# Altium integrated library Analog Devices Data Converters Digital-to-Analog Converters.IntLib: 2231 symbols (part 26 of 181)
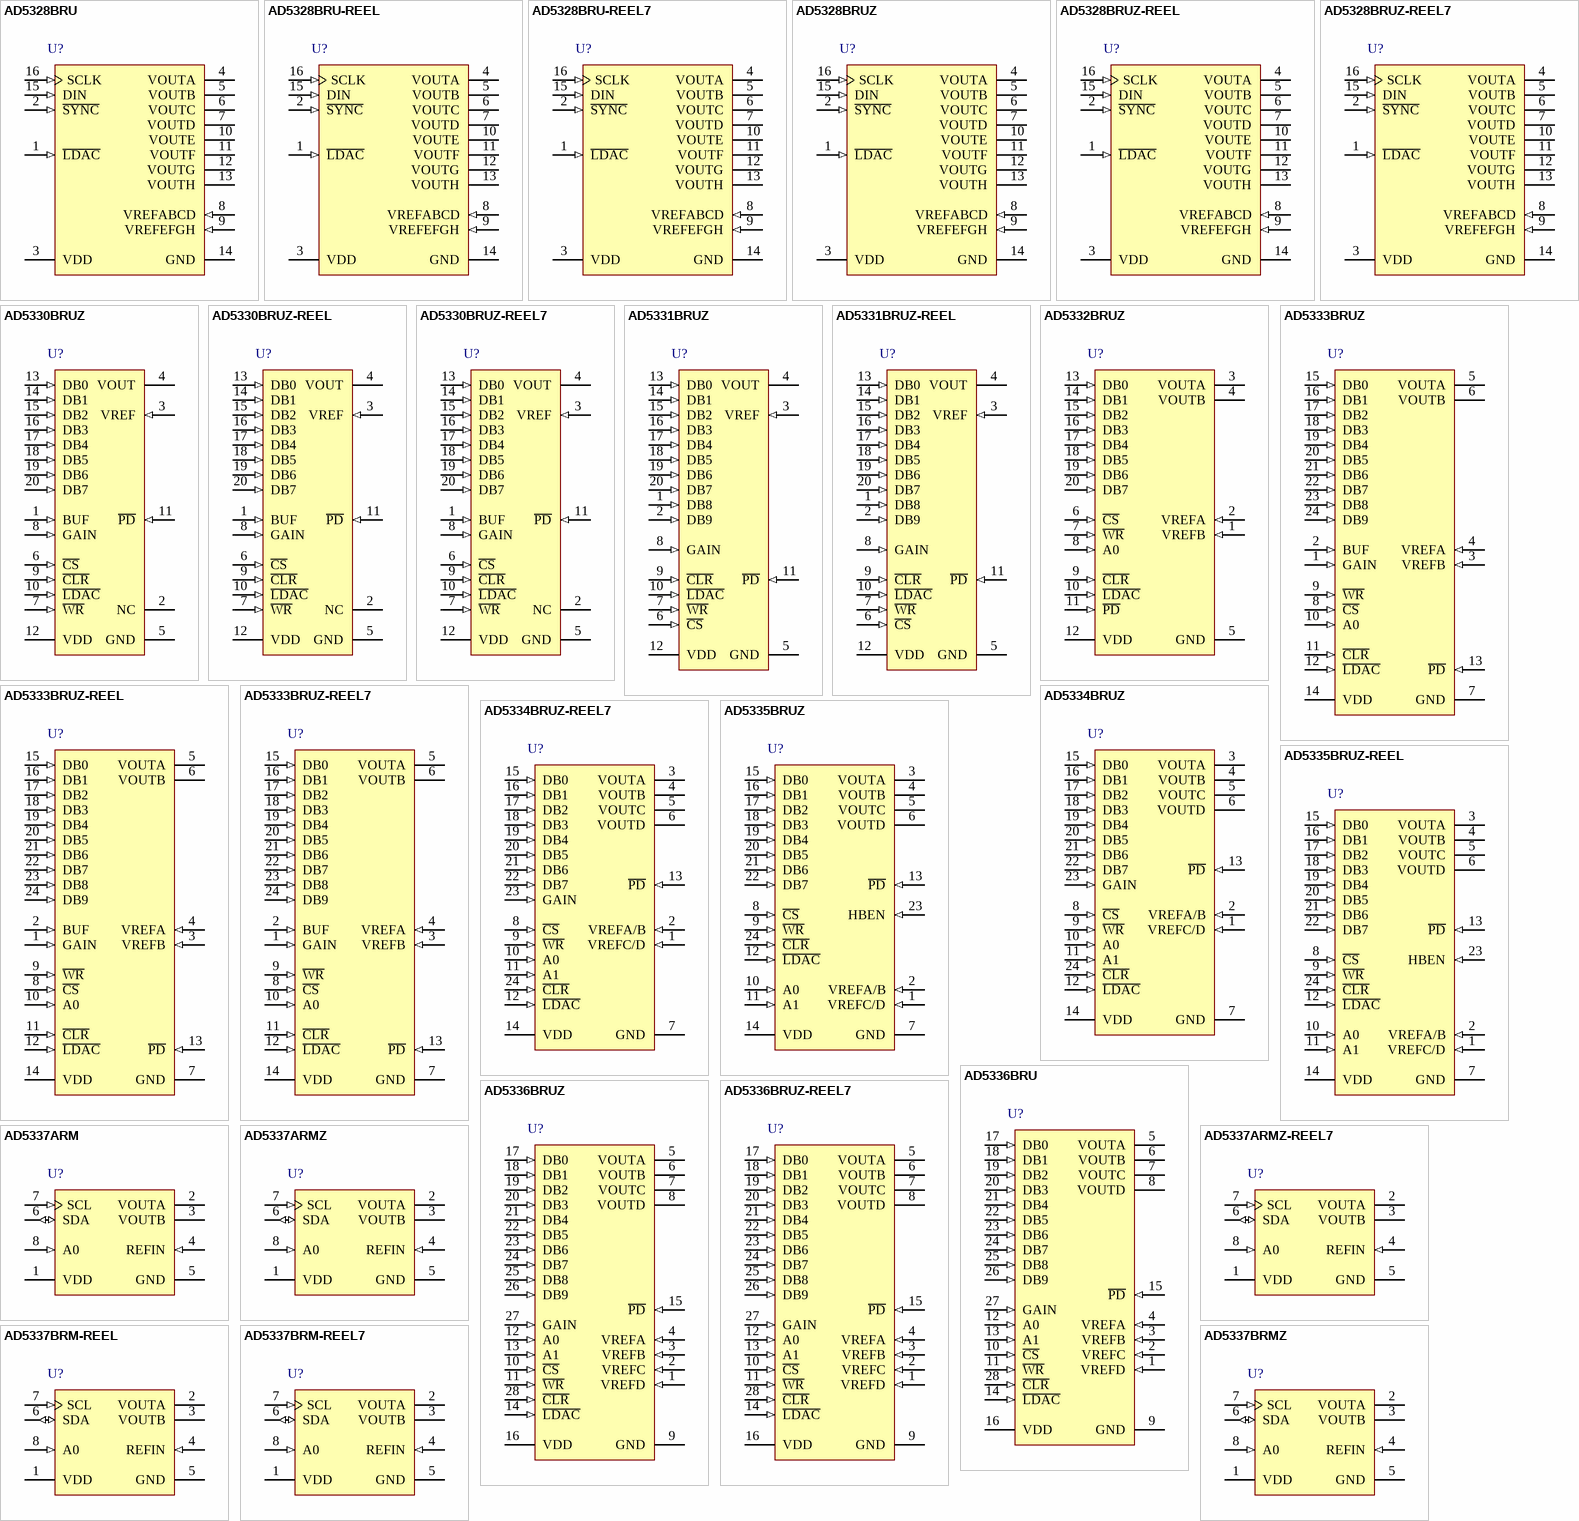
[diagram p139: symbols AD5328BRU to AD5337BRMZ]

## AD5330BRUZ-REEL
designator U?
Single 8-Bit Digital-to-Analog Converter, 2.5 to 5.5 V, -40 to +105 degC, RU-20, Pb-Free, Reel; Generic Part Number: AD5330; Manufacturer: Analog Devices; PartNumber: AD5330BRUZ-REEL; # DAC Outputs: 1; Max V+: 5.5V; Op Pwr Diss: 1.25mW; Resolution (Bits): 8; Settling Time: 6µs; Single Supply: Yes; DatasheetVersion: Rev.A; PackageVersion: 2000; PackageReference: RU-20; PackageDescription: 20-Lead Thin Shrink Small Outline Package [TSSOP]; Supplier 1: Digi-Key; Supplier Part Number 1: AD5330BRUZ-REEL-ND; Supplier 2: Newark; Supplier Part Number 2: 59K3958; Supplier 3: Mouser; Supplier Part Number 3: 584-AD5330BRUZ-R; Packing: Reel; RoHS: Y; Mounting Technology: Surface Mount; Code_JEDEC: MO-153AC; ComponentLink1Description: Manufacturer URL; ComponentLink1URL: http://www.analog.com/en/index.html; ComponentLink2Description: Datasheet; ComponentLink2URL: http://www.analog.com/static/imported-files/data_sheets/AD5330_5331_5340_5341.pdf; ComponentLink3Description: Package Specification; ComponentLink3URL: http://www.analog.com/static/imported-files/packages/364515793657813558433715854054607941441RU20.pdf; ComponentLink4Description: Product URL; ComponentLink4URL: http://www.analog.com/en/digital-to-analog-converters/da-converters/ad5330/products/product.html
footprint RU-20_N (TSOP, 20-Leads, Body 6.5x4.4mm, Pitch 0.65mm, IPC Medium Density)
footprint RU-20_L (TSOP, 20-Leads, Body 6.5x4.4mm, Pitch 0.65mm, IPC High Density)
footprint RU-20_M (TSOP, 20-Leads, Body 6.5x4.4mm, Pitch 0.65mm, IPC Low Density)
pins: 1 BUF (in) "Buffer Control Pin. This pin controls whether the reference input to the DAC is buffered or unbuffered.", 2 NC "No Connect.", 3 VREF (in) "Reference Input.", 4 VOUT (hiz) "Output of DAC. Buffered output with rail-to-rail operation.", 5 GND (power) "Ground reference point for all circuitry on the part.", 6 ~{CS} (in) "Active Low Chip Select Input. This is used in conjunction with W\R\ to write data to the parallel interface.", 7 ~{WR} (in) "Active Low Write Input. This is used in conjunction with C\S\ to write data to the parallel interface.", 8 GAIN (in) "Gain Control Pin. This controls whether the output range from the DAC is 0 V to VREF or 0 V to 2 x VREF.", 9 ~{CLR} (in) "Asynchronous active low control input that clears all input registers and DAC registers to zero.", 10 ~{LDAC} (in) "Active low control input that updates the DAC registers with the contents of the input registers", 11 ~{PD} (in) "Power-Down Pin. This active low control pin puts the DAC into power-down mode.", 12 VDD (power) "Power Supply Input. These parts can operate from 2.5 V to 5.5 V and the supply should be decoupled with a 10 uF capacitor in parallel with a 0.1 uF capacitor to GND.", 13 DB0 (in) "Parallel Data Input.", 14 DB1 (in) "Parallel Data Input.", 15 DB2 (in) "Parallel Data Input.", 16 DB3 (in) "Parallel Data Input.", 17 DB4 (in) "Parallel Data Input.", 18 DB5 (in) "Parallel Data Input.", 19 DB6 (in) "Parallel Data Input.", 20 DB7 (in) "Parallel Data Input. DB7 is the MSB of these eight bits."

## AD5330BRUZ-REEL7
designator U?
Single 8-Bit Digital-to-Analog Converter, 2.5 to 5.5 V, -40 to +105 degC, RU-20, Pb-Free, Reel; Generic Part Number: AD5330; Manufacturer: Analog Devices; PartNumber: AD5330BRUZ-REEL7; # DAC Outputs: 1; Max V+: 5.5V; Op Pwr Diss: 1.25mW; Resolution (Bits): 8; Settling Time: 6µs; Single Supply: Yes; DatasheetVersion: Rev.A; PackageVersion: 2000; PackageReference: RU-20; PackageDescription: 20-Lead Thin Shrink Small Outline Package [TSSOP]; Supplier 1: Digi-Key; Supplier Part Number 1: AD5330BRUZ-REEL7-ND; Supplier 2: Newark; Supplier Part Number 2: 59K3959; Supplier 3: Mouser; Supplier Part Number 3: 584-AD5330BRUZ-R7; Packing: Reel; RoHS: Y; Mounting Technology: Surface Mount; Code_JEDEC: MO-153AC; ComponentLink1Description: Manufacturer URL; ComponentLink1URL: http://www.analog.com/en/index.html; ComponentLink2Description: Datasheet; ComponentLink2URL: http://www.analog.com/static/imported-files/data_sheets/AD5330_5331_5340_5341.pdf; ComponentLink3Description: Package Specification; ComponentLink3URL: http://www.analog.com/static/imported-files/packages/364515793657813558433715854054607941441RU20.pdf; ComponentLink4Description: Product URL; ComponentLink4URL: http://www.analog.com/en/digital-to-analog-converters/da-converters/ad5330/products/product.html
footprint RU-20_N (TSOP, 20-Leads, Body 6.5x4.4mm, Pitch 0.65mm, IPC Medium Density)
footprint RU-20_L (TSOP, 20-Leads, Body 6.5x4.4mm, Pitch 0.65mm, IPC High Density)
footprint RU-20_M (TSOP, 20-Leads, Body 6.5x4.4mm, Pitch 0.65mm, IPC Low Density)
pins: 1 BUF (in) "Buffer Control Pin. This pin controls whether the reference input to the DAC is buffered or unbuffered.", 2 NC "No Connect.", 3 VREF (in) "Reference Input.", 4 VOUT (hiz) "Output of DAC. Buffered output with rail-to-rail operation.", 5 GND (power) "Ground reference point for all circuitry on the part.", 6 ~{CS} (in) "Active Low Chip Select Input. This is used in conjunction with W\R\ to write data to the parallel interface.", 7 ~{WR} (in) "Active Low Write Input. This is used in conjunction with C\S\ to write data to the parallel interface.", 8 GAIN (in) "Gain Control Pin. This controls whether the output range from the DAC is 0 V to VREF or 0 V to 2 x VREF.", 9 ~{CLR} (in) "Asynchronous active low control input that clears all input registers and DAC registers to zero.", 10 ~{LDAC} (in) "Active low control input that updates the DAC registers with the contents of the input registers", 11 ~{PD} (in) "Power-Down Pin. This active low control pin puts the DAC into power-down mode.", 12 VDD (power) "Power Supply Input. These parts can operate from 2.5 V to 5.5 V and the supply should be decoupled with a 10 uF capacitor in parallel with a 0.1 uF capacitor to GND.", 13 DB0 (in) "Parallel Data Input.", 14 DB1 (in) "Parallel Data Input.", 15 DB2 (in) "Parallel Data Input.", 16 DB3 (in) "Parallel Data Input.", 17 DB4 (in) "Parallel Data Input.", 18 DB5 (in) "Parallel Data Input.", 19 DB6 (in) "Parallel Data Input.", 20 DB7 (in) "Parallel Data Input. DB7 is the MSB of these eight bits."

## AD5331BRUZ
designator U?
Single 10-Bit Digital-to-Analog Converter, 2.5 to 5.5 V, -40 to +105 degC, RU-20, Pb-Free, Tube; Generic Part Number: AD5331; Manufacturer: Analog Devices; PartNumber: AD5331BRUZ; # DAC Outputs: 1; Max V+: 5.5V; Op Pwr Diss: 1.25mW; Resolution (Bits): 10; Settling Time: 7µs; Single Supply: Yes; DatasheetVersion: Rev.A; PackageVersion: 2000; PackageReference: RU-20; PackageDescription: 20-Lead Thin Shrink Small Outline Package [TSSOP]; Supplier 1: Digi-Key; Supplier Part Number 1: AD5331BRUZ-ND; Supplier 2: Farnell; Supplier Part Number 2: 9425950; Supplier 3: Newark; Supplier Part Number 3: 31M4077; Supplier 4: Newark; Supplier Part Number 4: 19M0814; Supplier 5: Mouser; Supplier Part Number 5: 584-AD5331BRUZ; Packing: Tube; RoHS: Y; Mounting Technology: Surface Mount; Code_JEDEC: MO-153AC; ComponentLink1Description: Manufacturer URL; ComponentLink1URL: http://www.analog.com/en/index.html; ComponentLink2Description: Datasheet; ComponentLink2URL: http://www.analog.com/static/imported-files/data_sheets/AD5330_5331_5340_5341.pdf; ComponentLink3Description: Package Specification; ComponentLink3URL: http://www.analog.com/static/imported-files/packages/364515793657813558433715854054607941441RU20.pdf; ComponentLink4Description: Product URL; ComponentLink4URL: http://www.analog.com/en/digital-to-analog-converters/da-converters/ad5331/products/product.html
footprint RU-20_N (TSOP, 20-Leads, Body 6.5x4.4mm, Pitch 0.65mm, IPC Medium Density)
footprint RU-20_L (TSOP, 20-Leads, Body 6.5x4.4mm, Pitch 0.65mm, IPC High Density)
footprint RU-20_M (TSOP, 20-Leads, Body 6.5x4.4mm, Pitch 0.65mm, IPC Low Density)
pins: 1 DB8 (in) "Parallel Data Input.", 2 DB9 (in) "Most Significant Bit of Parallel Data Input.", 3 VREF (in) "Unbuffered Reference Input.", 4 VOUT (hiz) "Output of DAC. Buffered output with rail-to-rail operation.", 5 GND (power) "Ground reference point for all circuitry on the part.", 6 ~{CS} (in) "Active Low Chip Select Input. This is used in conjunction with W\R\ to write data to the parallel interface.", 7 ~{WR} (in) "Active Low Write Input. This is used in conjunction with C\S\ to write data to the parallel interface.", 8 GAIN (in) "Gain Control Pin. This controls whether the output range from the DAC is 0 V to VREF or 0 V to 2 x VREF.", 9 ~{CLR} (in) "Active low control input that clears all input registers and DAC registers to zero.", 10 ~{LDAC} (in) "Active low control input that updates the DAC registers with the contents of the input registers.", 11 ~{PD} (in) "Power-Down Pin. This active low control pin puts the DAC into power-down mode.", 12 VDD (power) "Power Supply Input. These parts can operate from 2.5 V to 5.5 V and the supply should be decoupled with a 10 uF capacitor in parallel with a 0.1 uF capacitor to GND.", 13 DB0 (in) "Parallel Data Input.", 14 DB1 (in) "Parallel Data Input.", 15 DB2 (in) "Parallel Data Input.", 16 DB3 (in) "Parallel Data Input.", 17 DB4 (in) "Parallel Data Input.", 18 DB5 (in) "Parallel Data Input.", 19 DB6 (in) "Parallel Data Input.", 20 DB7 (in) "Parallel Data Input."

## AD5331BRUZ-REEL
designator U?
Single 10-Bit Digital-to-Analog Converter, 2.5 to 5.5 V, -40 to +105 degC, RU-20, Pb-Free, Reel; Generic Part Number: AD5331; Manufacturer: Analog Devices; PartNumber: AD5331BRUZ-REEL; # DAC Outputs: 1; Max V+: 5.5V; Op Pwr Diss: 1.25mW; Resolution (Bits): 10; Settling Time: 7µs; Single Supply: Yes; DatasheetVersion: Rev.A; PackageVersion: 2000; PackageReference: RU-20; PackageDescription: 20-Lead Thin Shrink Small Outline Package [TSSOP]; Supplier 1: Digi-Key; Supplier Part Number 1: AD5331BRUZ-REEL-ND; Supplier 2: Mouser; Supplier Part Number 2: 584-AD5331BRUZ-R; Packing: Reel; RoHS: Y; Mounting Technology: Surface Mount; Code_JEDEC: MO-153AC; ComponentLink1Description: Manufacturer URL; ComponentLink1URL: http://www.analog.com/en/index.html; ComponentLink2Description: Datasheet; ComponentLink2URL: http://www.analog.com/static/imported-files/data_sheets/AD5330_5331_5340_5341.pdf; ComponentLink3Description: Package Specification; ComponentLink3URL: http://www.analog.com/static/imported-files/packages/364515793657813558433715854054607941441RU20.pdf; ComponentLink4Description: Product URL; ComponentLink4URL: http://www.analog.com/en/digital-to-analog-converters/da-converters/ad5331/products/product.html
footprint RU-20_N (TSOP, 20-Leads, Body 6.5x4.4mm, Pitch 0.65mm, IPC Medium Density)
footprint RU-20_L (TSOP, 20-Leads, Body 6.5x4.4mm, Pitch 0.65mm, IPC High Density)
footprint RU-20_M (TSOP, 20-Leads, Body 6.5x4.4mm, Pitch 0.65mm, IPC Low Density)
pins: 1 DB8 (in) "Parallel Data Input.", 2 DB9 (in) "Most Significant Bit of Parallel Data Input.", 3 VREF (in) "Unbuffered Reference Input.", 4 VOUT (hiz) "Output of DAC. Buffered output with rail-to-rail operation.", 5 GND (power) "Ground reference point for all circuitry on the part.", 6 ~{CS} (in) "Active Low Chip Select Input. This is used in conjunction with W\R\ to write data to the parallel interface.", 7 ~{WR} (in) "Active Low Write Input. This is used in conjunction with C\S\ to write data to the parallel interface.", 8 GAIN (in) "Gain Control Pin. This controls whether the output range from the DAC is 0 V to VREF or 0 V to 2 x VREF.", 9 ~{CLR} (in) "Active low control input that clears all input registers and DAC registers to zero.", 10 ~{LDAC} (in) "Active low control input that updates the DAC registers with the contents of the input registers.", 11 ~{PD} (in) "Power-Down Pin. This active low control pin puts the DAC into power-down mode.", 12 VDD (power) "Power Supply Input. These parts can operate from 2.5 V to 5.5 V and the supply should be decoupled with a 10 uF capacitor in parallel with a 0.1 uF capacitor to GND.", 13 DB0 (in) "Parallel Data Input.", 14 DB1 (in) "Parallel Data Input.", 15 DB2 (in) "Parallel Data Input.", 16 DB3 (in) "Parallel Data Input.", 17 DB4 (in) "Parallel Data Input.", 18 DB5 (in) "Parallel Data Input.", 19 DB6 (in) "Parallel Data Input.", 20 DB7 (in) "Parallel Data Input."

## AD5332BRUZ
designator U?
Dual 8-Bit Digital-to-Analog Converter, 2.5 to 5.5 V, 230 uA, -40 to +105 degC, RU-20, Pb-Free, Tube; Generic Part Number: AD5332; Manufacturer: Analog Devices; PartNumber: AD5332BRUZ; # DAC Outputs: 2; Max V+: 5.5V; Op Pwr Diss: 1.8mW; Resolution (Bits): 8; Settling Time: 6µs; Single Supply: Yes; DatasheetVersion: Rev.0; PackageVersion: 2000; PackageReference: RU-20; PackageDescription: 20-Lead Thin Shrink Small Outline Package [TSSOP]; Supplier 1: Digi-Key; Supplier Part Number 1: AD5332BRUZ-ND; Supplier 2: Farnell; Supplier Part Number 2: 1079340; Supplier 3: Newark; Supplier Part Number 3: 31M4078; Supplier 4: Newark; Supplier Part Number 4: 19M0815; Supplier 5: Mouser; Supplier Part Number 5: 584-AD5332BRUZ; Packing: Tube; RoHS: Y; Mounting Technology: Surface Mount; Code_JEDEC: MO-153AC; ComponentLink1Description: Manufacturer URL; ComponentLink1URL: http://www.analog.com/en/index.html; ComponentLink2Description: Datasheet; ComponentLink2URL: http://www.analog.com/static/imported-files/data_sheets/AD5332_5333_5342_5343.pdf; ComponentLink3Description: Package Specification; ComponentLink3URL: http://www.analog.com/static/imported-files/packages/364515793657813558433715854054607941441RU20.pdf; ComponentLink4Description: Product URL; ComponentLink4URL: http://www.analog.com/en/digital-to-analog-converters/da-converters/ad5332/products/product.html
footprint RU-20_N (TSOP, 20-Leads, Body 6.5x4.4mm, Pitch 0.65mm, IPC Medium Density)
footprint RU-20_L (TSOP, 20-Leads, Body 6.5x4.4mm, Pitch 0.65mm, IPC High Density)
footprint RU-20_M (TSOP, 20-Leads, Body 6.5x4.4mm, Pitch 0.65mm, IPC Low Density)
pins: 1 VREFB (in) "Unbuffered reference input for DAC B.", 2 VREFA (in) "Unbuffered reference input for DAC A.", 3 VOUTA (hiz) "Output of DAC A. Buffered output with rail-to-rail operation.", 4 VOUTB (hiz) "Output of DAC B. Buffered output with rail-to-rail operation.", 5 GND (power) "Ground reference point for all circuitry on the part.", 6 ~{CS} (in) "Active low Chip Select Input. This is used in conjunction with W\R\ to write data to the parallel interface.", 7 ~{WR} (in) "Active low Write Input. This is used in conjunction with C\S\ to write data to the parallel interface.", 8 A0 (in) "Address pin for selecting which DAC A and DAC B.", 9 ~{CLR} (in) "Asynchronous active low control input that clears all input registers and DAC registers to zeros.", 10 ~{LDAC} (in) "Active low control input that updates the DAC registers with the contents of the input registers. This allows all DAC outputs to be simultaneously updated.", 11 ~{PD} (in) "Power-Down Pin. This active low control pin puts all DACs into power-down mode.", 12 VDD (power) "Power Supply Pin. These parts can operate from 2.5 V to 5.5 V and the supply should be decoupled with a 10 uF capacitor in parallel with a 0.1 uF capacitor to GND.", 13 DB0 (in) "Eight Parallel Data Input.", 14 DB1 (in) "Eight Parallel Data Input.", 15 DB2 (in) "Eight Parallel Data Input.", 16 DB3 (in) "Eight Parallel Data Input.", 17 DB4 (in) "Eight Parallel Data Input.", 18 DB5 (in) "Eight Parallel Data Input.", 19 DB6 (in) "Eight Parallel Data Input.", 20 DB7 (in) "Eight Parallel Data Inputs. DB7 is the MSB of these eight bit."

## AD5333BRUZ
designator U?
Dual 10-Bit Digital-to-Analog Converter, 2.5 to 5.5 V, 230 uA, -40 to +105 degC, RU-24, Pb-Free, Tube; Generic Part Number: AD5333; Manufacturer: Analog Devices; PartNumber: AD5333BRUZ; # DAC Outputs: 2; Max V+: 5.5V; Op Pwr Diss: 2.25mW; Resolution (Bits): 10; Settling Time: 7µs; Single Supply: Yes; DatasheetVersion: Rev.0; PackageVersion: 2002; PackageReference: RU-24; PackageDescription: 24-Lead Thin Shrink Small Outline Package [TSSOP]; Supplier 1: Digi-Key; Supplier Part Number 1: AD5333BRUZ-ND; Supplier 2: Farnell; Supplier Part Number 2: 9425969; Supplier 3: Newark; Supplier Part Number 3: 31M4079; Supplier 4: Newark; Supplier Part Number 4: 59K3965; Supplier 5: Mouser; Supplier Part Number 5: 584-AD5333BRUZ; Packing: Tube; RoHS: Y; Mounting Technology: Surface Mount; Code_JEDEC: MO-153-AD; ComponentLink1Description: Manufacturer URL; ComponentLink1URL: http://www.analog.com/en/index.html; ComponentLink2Description: Datasheet; ComponentLink2URL: http://www.analog.com/static/imported-files/data_sheets/AD5332_5333_5342_5343.pdf; ComponentLink3Description: Package Specification; ComponentLink3URL: http://www.analog.com/static/imported-files/packages/380523655245964505593671154107510036154RU24.pdf; ComponentLink4Description: Product URL; ComponentLink4URL: http://www.analog.com/en/digital-to-analog-converters/da-converters/ad5333/products/product.html
footprint RU-24_N (TSOP, 24-Leads, Body 7.8x4.4mm, Pitch 0.65mm, IPC Medium Density)
footprint RU-24_L (TSOP, 24-Leads, Body 7.8x4.4mm, Pitch 0.65mm, IPC High Density)
footprint RU-24_M (TSOP, 24-Leads, Body 7.8x4.4mm, Pitch 0.65mm, IPC Low Density)
pins: 1 GAIN (in) "Gain Control Pin. This controls whether the output range from the DAC is 0-VREF or 0-2 VREF.", 2 BUF (in) "Buffer Control Pin. This pin controls whether the reference input to the DAC is buffered or unbuffered.", 3 VREFB (in) "Reference input for DAC B.", 4 VREFA (in) "Reference input for DAC A.", 5 VOUTA (hiz) "Output of DAC A. Buffered output with rail-to-rail operation.", 6 VOUTB (hiz) "Output of DAC B. Buffered output with rail-to-rail operation.", 7 GND (power) "Ground reference point for all circuitry on the part.", 8 ~{CS} (in) "Active Low Chip Select Input. This is used in conjunction with W\R\ to write data to the parallel interface.", 9 ~{WR} (in) "Active Low Write Input. This is used in conjunction with C\S\ to write data to the parallel interface.", 10 A0 (in) "Address pin for selecting between DAC A and DAC B.", 11 ~{CLR} (in) "Asynchronous active-low control input that clears all input registers and DAC registers to zeros.", 12 ~{LDAC} (in) "Active-low control input that updates the DAC registers with the contents of the input registers. This allows all DAC outputs to be simultaneously updated.", 13 ~{PD} (in) "Power-Down Pin. This active low control pin puts all DACs into power-down mode.", 14 VDD (power) "Power Supply Pin. These parts can operate from 2.5 V to 5.5 V and the supply should be decoupled with a 10 uF capacitor in parallel with a 0.1 uF capacitor to GND.", 15 DB0 (in) "Parallel Data Input.", 16 DB1 (in) "Parallel Data Input.", 17 DB2 (in) "Parallel Data Input.", 18 DB3 (in) "Parallel Data Input.", 19 DB4 (in) "Parallel Data Input.", 20 DB5 (in) "Parallel Data Input.", 21 DB6 (in) "Parallel Data Input.", 22 DB7 (in) "Parallel Data Input.", 23 DB8 (in) "Parallel Data Input.", 24 DB9 (in) "DB9 is the MSB of these 10 bits."

## AD5333BRUZ-REEL
designator U?
Dual 10-Bit Digital-to-Analog Converter, 2.5 to 5.5 V, 230 uA, -40 to +105 degC, RU-24, Pb-Free, Reel; Generic Part Number: AD5333; Manufacturer: Analog Devices; PartNumber: AD5333BRUZ-REEL; # DAC Outputs: 2; Max V+: 5.5V; Op Pwr Diss: 2.25mW; Resolution (Bits): 10; Settling Time: 7µs; Single Supply: Yes; DatasheetVersion: Rev.0; PackageVersion: 2002; PackageReference: RU-24; PackageDescription: 24-Lead Thin Shrink Small Outline Package [TSSOP]; Supplier 1: Digi-Key; Supplier Part Number 1: AD5333BRUZ-REEL-ND; Supplier 2: Mouser; Supplier Part Number 2: 584-AD5333BRUZ-R; Packing: Reel; RoHS: Y; Mounting Technology: Surface Mount; Code_JEDEC: MO-153-AD; ComponentLink1Description: Manufacturer URL; ComponentLink1URL: http://www.analog.com/en/index.html; ComponentLink2Description: Datasheet; ComponentLink2URL: http://www.analog.com/static/imported-files/data_sheets/AD5332_5333_5342_5343.pdf; ComponentLink3Description: Package Specification; ComponentLink3URL: http://www.analog.com/static/imported-files/packages/380523655245964505593671154107510036154RU24.pdf; ComponentLink4Description: Product URL; ComponentLink4URL: http://www.analog.com/en/digital-to-analog-converters/da-converters/ad5333/products/product.html
footprint RU-24_N (TSOP, 24-Leads, Body 7.8x4.4mm, Pitch 0.65mm, IPC Medium Density)
footprint RU-24_L (TSOP, 24-Leads, Body 7.8x4.4mm, Pitch 0.65mm, IPC High Density)
footprint RU-24_M (TSOP, 24-Leads, Body 7.8x4.4mm, Pitch 0.65mm, IPC Low Density)
pins: 1 GAIN (in) "Gain Control Pin. This controls whether the output range from the DAC is 0-VREF or 0-2 VREF.", 2 BUF (in) "Buffer Control Pin. This pin controls whether the reference input to the DAC is buffered or unbuffered.", 3 VREFB (in) "Reference input for DAC B.", 4 VREFA (in) "Reference input for DAC A.", 5 VOUTA (hiz) "Output of DAC A. Buffered output with rail-to-rail operation.", 6 VOUTB (hiz) "Output of DAC B. Buffered output with rail-to-rail operation.", 7 GND (power) "Ground reference point for all circuitry on the part.", 8 ~{CS} (in) "Active Low Chip Select Input. This is used in conjunction with W\R\ to write data to the parallel interface.", 9 ~{WR} (in) "Active Low Write Input. This is used in conjunction with C\S\ to write data to the parallel interface.", 10 A0 (in) "Address pin for selecting between DAC A and DAC B.", 11 ~{CLR} (in) "Asynchronous active-low control input that clears all input registers and DAC registers to zeros.", 12 ~{LDAC} (in) "Active-low control input that updates the DAC registers with the contents of the input registers. This allows all DAC outputs to be simultaneously updated.", 13 ~{PD} (in) "Power-Down Pin. This active low control pin puts all DACs into power-down mode.", 14 VDD (power) "Power Supply Pin. These parts can operate from 2.5 V to 5.5 V and the supply should be decoupled with a 10 uF capacitor in parallel with a 0.1 uF capacitor to GND.", 15 DB0 (in) "Parallel Data Input.", 16 DB1 (in) "Parallel Data Input.", 17 DB2 (in) "Parallel Data Input.", 18 DB3 (in) "Parallel Data Input.", 19 DB4 (in) "Parallel Data Input.", 20 DB5 (in) "Parallel Data Input.", 21 DB6 (in) "Parallel Data Input.", 22 DB7 (in) "Parallel Data Input.", 23 DB8 (in) "Parallel Data Input.", 24 DB9 (in) "DB9 is the MSB of these 10 bits."

## AD5333BRUZ-REEL7
designator U?
Dual 10-Bit Digital-to-Analog Converter, 2.5 to 5.5 V, 230 uA, -40 to +105 degC, RU-24, Pb-Free, Reel; Generic Part Number: AD5333; Manufacturer: Analog Devices; PartNumber: AD5333BRUZ-REEL7; # DAC Outputs: 2; Max V+: 5.5V; Op Pwr Diss: 2.25mW; Resolution (Bits): 10; Settling Time: 7µs; Single Supply: Yes; DatasheetVersion: Rev.0; PackageVersion: 2002; PackageReference: RU-24; PackageDescription: 24-Lead Thin Shrink Small Outline Package [TSSOP]; Supplier 1: Digi-Key; Supplier Part Number 1: AD5333BRUZ-REEL7-ND; Supplier 2: Mouser; Supplier Part Number 2: 584-AD5333BRUZ-R7; Packing: Reel; RoHS: Y; Mounting Technology: Surface Mount; Code_JEDEC: MO-153-AD; ComponentLink1Description: Manufacturer URL; ComponentLink1URL: http://www.analog.com/en/index.html; ComponentLink2Description: Datasheet; ComponentLink2URL: http://www.analog.com/static/imported-files/data_sheets/AD5332_5333_5342_5343.pdf; ComponentLink3Description: Package Specification; ComponentLink3URL: http://www.analog.com/static/imported-files/packages/380523655245964505593671154107510036154RU24.pdf; ComponentLink4Description: Product URL; ComponentLink4URL: http://www.analog.com/en/digital-to-analog-converters/da-converters/ad5333/products/product.html
footprint RU-24_N (TSOP, 24-Leads, Body 7.8x4.4mm, Pitch 0.65mm, IPC Medium Density)
footprint RU-24_L (TSOP, 24-Leads, Body 7.8x4.4mm, Pitch 0.65mm, IPC High Density)
footprint RU-24_M (TSOP, 24-Leads, Body 7.8x4.4mm, Pitch 0.65mm, IPC Low Density)
pins: 1 GAIN (in) "Gain Control Pin. This controls whether the output range from the DAC is 0-VREF or 0-2 VREF.", 2 BUF (in) "Buffer Control Pin. This pin controls whether the reference input to the DAC is buffered or unbuffered.", 3 VREFB (in) "Reference input for DAC B.", 4 VREFA (in) "Reference input for DAC A.", 5 VOUTA (hiz) "Output of DAC A. Buffered output with rail-to-rail operation.", 6 VOUTB (hiz) "Output of DAC B. Buffered output with rail-to-rail operation.", 7 GND (power) "Ground reference point for all circuitry on the part.", 8 ~{CS} (in) "Active Low Chip Select Input. This is used in conjunction with W\R\ to write data to the parallel interface.", 9 ~{WR} (in) "Active Low Write Input. This is used in conjunction with C\S\ to write data to the parallel interface.", 10 A0 (in) "Address pin for selecting between DAC A and DAC B.", 11 ~{CLR} (in) "Asynchronous active-low control input that clears all input registers and DAC registers to zeros.", 12 ~{LDAC} (in) "Active-low control input that updates the DAC registers with the contents of the input registers. This allows all DAC outputs to be simultaneously updated.", 13 ~{PD} (in) "Power-Down Pin. This active low control pin puts all DACs into power-down mode.", 14 VDD (power) "Power Supply Pin. These parts can operate from 2.5 V to 5.5 V and the supply should be decoupled with a 10 uF capacitor in parallel with a 0.1 uF capacitor to GND.", 15 DB0 (in) "Parallel Data Input.", 16 DB1 (in) "Parallel Data Input.", 17 DB2 (in) "Parallel Data Input.", 18 DB3 (in) "Parallel Data Input.", 19 DB4 (in) "Parallel Data Input.", 20 DB5 (in) "Parallel Data Input.", 21 DB6 (in) "Parallel Data Input.", 22 DB7 (in) "Parallel Data Input.", 23 DB8 (in) "Parallel Data Input.", 24 DB9 (in) "DB9 is the MSB of these 10 bits."

## AD5334BRUZ
designator U?
Quad 8-Bit Digital-to-Analog Converter, 2.5 to 5.5 V, -40 to +105 degC, RU-24, Pb-Free, Tube; Generic Part Number: AD5334; Manufacturer: Analog Devices; PartNumber: AD5334BRUZ; # DAC Outputs: 4; Max V+: 5.5V; Op Pwr Diss: 4.5mW; Resolution (Bits): 8; Settling Time: 6µs; Single Supply: Yes; DatasheetVersion: Rev.0; PackageVersion: 2002; PackageReference: RU-24; PackageDescription: 24-Lead Thin Shrink Small Outline Package [TSSOP]; Supplier 1: Digi-Key; Supplier Part Number 1: AD5334BRUZ-ND; Supplier 2: Farnell; Supplier Part Number 2: 9604189; Supplier 3: Newark; Supplier Part Number 3: 31M4080; Supplier 4: Mouser; Supplier Part Number 4: 584-AD5334BRUZ; Packing: Tube; RoHS: Y; Mounting Technology: Surface Mount; Code_JEDEC: MO-153-AD; ComponentLink1Description: Manufacturer URL; ComponentLink1URL: http://www.analog.com/en/index.html; ComponentLink2Description: Datasheet; ComponentLink2URL: http://www.analog.com/static/imported-files/data_sheets/AD5334_5335_5336_5344.pdf; ComponentLink3Description: Package Specification; ComponentLink3URL: http://www.analog.com/static/imported-files/packages/380523655245964505593671154107510036154RU24.pdf; ComponentLink4Description: Product URL; ComponentLink4URL: http://www.analog.com/en/digital-to-analog-converters/da-converters/ad5334/products/product.html
footprint RU-24_N (TSOP, 24-Leads, Body 7.8x4.4mm, Pitch 0.65mm, IPC Medium Density)
footprint RU-24_L (TSOP, 24-Leads, Body 7.8x4.4mm, Pitch 0.65mm, IPC High Density)
footprint RU-24_M (TSOP, 24-Leads, Body 7.8x4.4mm, Pitch 0.65mm, IPC Low Density)
pins: 1 VREFC/D (in) "Unbuffered Reference Input for DACs C and D.", 2 VREFA/B (in) "Unbuffered Reference Input for DACs A and B.", 3 VOUTA (hiz) "Output of DAC A. Buffered Output with Rail-to-Rail Operation.", 4 VOUTB (hiz) "Output of DAC B. Buffered Output with Rail-to-Rail Operation.", 5 VOUTC (hiz) "Output of DAC C. Buffered Output with Rail-to-Rail Operation.", 6 VOUTD (hiz) "Output of DAC D. Buffered Output with Rail-to-Rail Operation.", 7 GND (power) "Ground Reference Point for All Circuitry on the Part.", 8 ~{CS} (in) "Active Low Chip Select Input. This is used in conjunction with W\R\ to write data to the parallel interface.", 9 ~{WR} (in) "Active Low Write Input. This is used in conjunction with C\S\ to write data to the parallel interface.", 10 A0 (in) "LSB Address Pin for Selecting which DAC Is to Be Written to.", 11 A1 (in) "MSB Address Pin for Selecting which DAC Is to Be Written to.", 12 ~{LDAC} (in) "Active Low Control Input that Updates the DAC Registers with the Contents of the Input Registers. This allows all DAC outputs to be simultaneously updated.", 13 ~{PD} (in) "Power-Down Pin. This active low control pin puts all DACs into power-down mode.", 14 VDD (power) "Power Supply Pin. This part can operate from 2.5 V to 5.5 V and the supply should be decoupled with a 10 uF capacitor in parallel with a 0.1 uF capacitor to GND.", 15 DB0 (in) "Parallel Data Input.", 16 DB1 (in) "Parallel Data Input.", 17 DB2 (in) "Parallel Data Input.", 18 DB3 (in) "Parallel Data Input.", 19 DB4 (in) "Parallel Data Input.", 20 DB5 (in) "Parallel Data Input.", 21 DB6 (in) "Parallel Data Input.", 22 DB7 (in) "Parallel Data Input. DB7 is the MSB of these eight bits.", 23 GAIN (in) "Gain Control Pin. This controls whether the output range from the DAC is 0-VREF or 0-2 VREF", 24 ~{CLR} (in) "Asynchronous Active Low Control Input that Clears All Input Registers and DAC Registers to Zeros."

## AD5334BRUZ-REEL7
designator U?
Quad 8-Bit Digital-to-Analog Converter, 2.5 to 5.5 V, -40 to +105 degC, RU-24, Pb-Free, Reel; Generic Part Number: AD5334; Manufacturer: Analog Devices; PartNumber: AD5334BRUZ-REEL7; # DAC Outputs: 4; Max V+: 5.5V; Op Pwr Diss: 4.5mW; Resolution (Bits): 8; Settling Time: 6µs; Single Supply: Yes; DatasheetVersion: Rev.0; PackageVersion: 2002; PackageReference: RU-24; PackageDescription: 24-Lead Thin Shrink Small Outline Package [TSSOP]; Supplier 1: Digi-Key; Supplier Part Number 1: AD5334BRUZ-REEL7TR-ND; Supplier 2: Digi-Key; Supplier Part Number 2: AD5334BRUZ-REEL7CT-ND; Supplier 3: Digi-Key; Supplier Part Number 3: AD5334BRUZ-REEL7DKR-ND; Supplier 4: Mouser; Supplier Part Number 4: 584-AD5334BRUZ-R7; Packing: Reel; RoHS: Y; Mounting Technology: Surface Mount; Code_JEDEC: MO-153-AD; ComponentLink1Description: Manufacturer URL; ComponentLink1URL: http://www.analog.com/en/index.html; ComponentLink2Description: Datasheet; ComponentLink2URL: http://www.analog.com/static/imported-files/data_sheets/AD5334_5335_5336_5344.pdf; ComponentLink3Description: Package Specification; ComponentLink3URL: http://www.analog.com/static/imported-files/packages/380523655245964505593671154107510036154RU24.pdf; ComponentLink4Description: Product URL; ComponentLink4URL: http://www.analog.com/en/digital-to-analog-converters/da-converters/ad5334/products/product.html
footprint RU-24_N (TSOP, 24-Leads, Body 7.8x4.4mm, Pitch 0.65mm, IPC Medium Density)
footprint RU-24_L (TSOP, 24-Leads, Body 7.8x4.4mm, Pitch 0.65mm, IPC High Density)
footprint RU-24_M (TSOP, 24-Leads, Body 7.8x4.4mm, Pitch 0.65mm, IPC Low Density)
pins: 1 VREFC/D (in) "Unbuffered Reference Input for DACs C and D.", 2 VREFA/B (in) "Unbuffered Reference Input for DACs A and B.", 3 VOUTA (hiz) "Output of DAC A. Buffered Output with Rail-to-Rail Operation.", 4 VOUTB (hiz) "Output of DAC B. Buffered Output with Rail-to-Rail Operation.", 5 VOUTC (hiz) "Output of DAC C. Buffered Output with Rail-to-Rail Operation.", 6 VOUTD (hiz) "Output of DAC D. Buffered Output with Rail-to-Rail Operation.", 7 GND (power) "Ground Reference Point for All Circuitry on the Part.", 8 ~{CS} (in) "Active Low Chip Select Input. This is used in conjunction with W\R\ to write data to the parallel interface.", 9 ~{WR} (in) "Active Low Write Input. This is used in conjunction with C\S\ to write data to the parallel interface.", 10 A0 (in) "LSB Address Pin for Selecting which DAC Is to Be Written to.", 11 A1 (in) "MSB Address Pin for Selecting which DAC Is to Be Written to.", 12 ~{LDAC} (in) "Active Low Control Input that Updates the DAC Registers with the Contents of the Input Registers. This allows all DAC outputs to be simultaneously updated.", 13 ~{PD} (in) "Power-Down Pin. This active low control pin puts all DACs into power-down mode.", 14 VDD (power) "Power Supply Pin. This part can operate from 2.5 V to 5.5 V and the supply should be decoupled with a 10 uF capacitor in parallel with a 0.1 uF capacitor to GND.", 15 DB0 (in) "Parallel Data Input.", 16 DB1 (in) "Parallel Data Input.", 17 DB2 (in) "Parallel Data Input.", 18 DB3 (in) "Parallel Data Input.", 19 DB4 (in) "Parallel Data Input.", 20 DB5 (in) "Parallel Data Input.", 21 DB6 (in) "Parallel Data Input.", 22 DB7 (in) "Parallel Data Input. DB7 is the MSB of these eight bits.", 23 GAIN (in) "Gain Control Pin. This controls whether the output range from the DAC is 0-VREF or 0-2 VREF", 24 ~{CLR} (in) "Asynchronous Active Low Control Input that Clears All Input Registers and DAC Registers to Zeros."

## AD5335BRUZ
designator U?
Quad 10-Bit Digital-to-Analog Converter, 2.5 to 5.5 V, -40 to +105 degC, RU-24, Pb-Free, Tube; Generic Part Number: AD5335; Manufacturer: Analog Devices; PartNumber: AD5335BRUZ; # DAC Outputs: 4; Max V+: 5.5V; Op Pwr Diss: 4.5mW; Resolution (Bits): 10; Settling Time: 7µs; Single Supply: Yes; DatasheetVersion: Rev.0; PackageVersion: 2002; PackageReference: RU-24; PackageDescription: 24-Lead Thin Shrink Small Outline Package [TSSOP]; Supplier 1: Digi-Key; Supplier Part Number 1: AD5335BRUZ-ND; Supplier 2: Mouser; Supplier Part Number 2: 584-AD5335BRUZ; Packing: Tube; RoHS: Y; Mounting Technology: Surface Mount; Code_JEDEC: MO-153-AD; ComponentLink1Description: Manufacturer URL; ComponentLink1URL: http://www.analog.com/en/index.html; ComponentLink2Description: Datasheet; ComponentLink2URL: http://www.analog.com/static/imported-files/data_sheets/AD5334_5335_5336_5344.pdf; ComponentLink3Description: Package Specification; ComponentLink3URL: http://www.analog.com/static/imported-files/packages/380523655245964505593671154107510036154RU24.pdf; ComponentLink4Description: Product URL; ComponentLink4URL: http://www.analog.com/en/digital-to-analog-converters/da-converters/ad5335/products/product.html
footprint RU-24_N (TSOP, 24-Leads, Body 7.8x4.4mm, Pitch 0.65mm, IPC Medium Density)
footprint RU-24_L (TSOP, 24-Leads, Body 7.8x4.4mm, Pitch 0.65mm, IPC High Density)
footprint RU-24_M (TSOP, 24-Leads, Body 7.8x4.4mm, Pitch 0.65mm, IPC Low Density)
pins: 1 VREFC/D (in) "Unbuffered Reference Input for DACs C and D.", 2 VREFA/B (in) "Unbuffered Reference Input for DACs A and B.", 3 VOUTA (hiz) "Output of DAC A. Buffered output with rail-to-rail operation.", 4 VOUTB (hiz) "Output of DAC B. Buffered output with rail-to-rail operation.", 5 VOUTC (hiz) "Output of DAC C. Buffered output with rail-to-rail operation.", 6 VOUTD (hiz) "Output of DAC D. Buffered output with rail-to-rail operation.", 7 GND (power) "Ground Reference Point for All Circuitry on the Part.", 8 ~{CS} (in) "Active Low Chip Select Input. This is used in conjunction with W\R\ to write data to the parallel interface.", 9 ~{WR} (in) "Active Low Write Input. This is used in conjunction with C\S\ to write data to the parallel interface.", 10 A0 (in) "LSB Address Pin for Selecting which DAC Is to Be Written to.", 11 A1 (in) "MSB Address Pin for Selecting which DAC Is to Be Written to.", 12 ~{LDAC} (in) "Active Low Control Input that Updates the DAC Registers with the Contents of the Input Registers. This allows all DAC outputs to be simultaneously updated.", 13 ~{PD} (in) "Power-Down Pin. This active low control pin puts all DACs into power-down mode.", 14 VDD (power) "Power Supply Pin. This part can operate from 2.5 V to 5.5 V and the supply should be decoupled with a 10 uF capacitor in parallel with a 0.1 uF capacitor to GND.", 15 DB0 (in) "Eight Parallel Data Input.", 16 DB1 (in) "Eight Parallel Data Input.", 17 DB2 (in) "Eight Parallel Data Input.", 18 DB3 (in) "Eight Parallel Data Input.", 19 DB4 (in) "Eight Parallel Data Input.", 20 DB5 (in) "Eight Parallel Data Input.", 21 DB6 (in) "Eight Parallel Data Input.", 22 DB7 (in) "Eight Parallel Data Input. DB7 is the MSB.", 23 HBEN (in) "This pin is used when writing to the device to determine if data is written to the high byte register or the low byte register.", 24 ~{CLR} (in) "Asynchronous Active Low Control Input that Clears All Input Registers and DAC Registers to Zeros."

## AD5335BRUZ-REEL
designator U?
Quad 10-Bit Digital-to-Analog Converter, 2.5 to 5.5 V, -40 to +105 degC, RU-24, Pb-Free, Reel; Generic Part Number: AD5335; Manufacturer: Analog Devices; PartNumber: AD5335BRUZ-REEL; # DAC Outputs: 4; Max V+: 5.5V; Op Pwr Diss: 4.5mW; Resolution (Bits): 10; Settling Time: 7µs; Single Supply: Yes; DatasheetVersion: Rev.0; PackageVersion: 2002; PackageReference: RU-24; PackageDescription: 24-Lead Thin Shrink Small Outline Package [TSSOP]; Supplier 1: Digi-Key; Supplier Part Number 1: AD5335BRUZ-REEL-ND; Supplier 2: Mouser; Supplier Part Number 2: 584-AD5335BRUZ-R; Packing: Reel; RoHS: Y; Mounting Technology: Surface Mount; Code_JEDEC: MO-153-AD; ComponentLink1Description: Manufacturer URL; ComponentLink1URL: http://www.analog.com/en/index.html; ComponentLink2Description: Datasheet; ComponentLink2URL: http://www.analog.com/static/imported-files/data_sheets/AD5334_5335_5336_5344.pdf; ComponentLink3Description: Package Specification; ComponentLink3URL: http://www.analog.com/static/imported-files/packages/380523655245964505593671154107510036154RU24.pdf; ComponentLink4Description: Product URL; ComponentLink4URL: http://www.analog.com/en/digital-to-analog-converters/da-converters/ad5335/products/product.html
footprint RU-24_N (TSOP, 24-Leads, Body 7.8x4.4mm, Pitch 0.65mm, IPC Medium Density)
footprint RU-24_L (TSOP, 24-Leads, Body 7.8x4.4mm, Pitch 0.65mm, IPC High Density)
footprint RU-24_M (TSOP, 24-Leads, Body 7.8x4.4mm, Pitch 0.65mm, IPC Low Density)
pins: 1 VREFC/D (in) "Unbuffered Reference Input for DACs C and D.", 2 VREFA/B (in) "Unbuffered Reference Input for DACs A and B.", 3 VOUTA (hiz) "Output of DAC A. Buffered output with rail-to-rail operation.", 4 VOUTB (hiz) "Output of DAC B. Buffered output with rail-to-rail operation.", 5 VOUTC (hiz) "Output of DAC C. Buffered output with rail-to-rail operation.", 6 VOUTD (hiz) "Output of DAC D. Buffered output with rail-to-rail operation.", 7 GND (power) "Ground Reference Point for All Circuitry on the Part.", 8 ~{CS} (in) "Active Low Chip Select Input. This is used in conjunction with W\R\ to write data to the parallel interface.", 9 ~{WR} (in) "Active Low Write Input. This is used in conjunction with C\S\ to write data to the parallel interface.", 10 A0 (in) "LSB Address Pin for Selecting which DAC Is to Be Written to.", 11 A1 (in) "MSB Address Pin for Selecting which DAC Is to Be Written to.", 12 ~{LDAC} (in) "Active Low Control Input that Updates the DAC Registers with the Contents of the Input Registers. This allows all DAC outputs to be simultaneously updated.", 13 ~{PD} (in) "Power-Down Pin. This active low control pin puts all DACs into power-down mode.", 14 VDD (power) "Power Supply Pin. This part can operate from 2.5 V to 5.5 V and the supply should be decoupled with a 10 uF capacitor in parallel with a 0.1 uF capacitor to GND.", 15 DB0 (in) "Eight Parallel Data Input.", 16 DB1 (in) "Eight Parallel Data Input.", 17 DB2 (in) "Eight Parallel Data Input.", 18 DB3 (in) "Eight Parallel Data Input.", 19 DB4 (in) "Eight Parallel Data Input.", 20 DB5 (in) "Eight Parallel Data Input.", 21 DB6 (in) "Eight Parallel Data Input.", 22 DB7 (in) "Eight Parallel Data Input. DB7 is the MSB.", 23 HBEN (in) "This pin is used when writing to the device to determine if data is written to the high byte register or the low byte register.", 24 ~{CLR} (in) "Asynchronous Active Low Control Input that Clears All Input Registers and DAC Registers to Zeros."

## AD5336BRU
designator U?
Quad 10-Bit Digital-to-Analog Converter, 2.5 to 5.5 V, -40 to +105 degC, RU-28, Tube; Generic Part Number: AD5336; Manufacturer: Analog Devices; PartNumber: AD5336BRU; # DAC Outputs: 4; Max V+: 5.5V; Op Pwr Diss: 4.5mW; Resolution (Bits): 10; Settling Time: 7µs; Single Supply: Yes; DatasheetVersion: Rev.0; PackageVersion: 2005; PackageReference: RU-28; PackageDescription: 28-Lead Thin Shrink Small Outline Package [TSSOP]; Supplier 1: Digi-Key; Supplier Part Number 1: AD5336BRU-ND; Supplier 2: Mouser; Supplier Part Number 2: 584-AD5336BRU; Packing: Tube; RoHS: N; Mounting Technology: Surface Mount; Code_JEDEC: MO-153-AE; ComponentLink1Description: Manufacturer URL; ComponentLink1URL: http://www.analog.com/en/index.html; ComponentLink2Description: Datasheet; ComponentLink2URL: http://www.analog.com/static/imported-files/data_sheets/AD5334_5335_5336_5344.pdf; ComponentLink3Description: Package Specification; ComponentLink3URL: http://www.analog.com/static/imported-files/packages/249854663RU_28.pdf; ComponentLink4Description: Product URL; ComponentLink4URL: http://www.analog.com/en/digital-to-analog-converters/da-converters/ad5336/products/product.html
footprint RU-28_N (TSOP, 28-Leads, Body 9.7x4.4mm, Pitch 0.65mm, IPC Medium Density)
footprint RU-28_L (TSOP, 28-Leads, Body 9.7x4.4mm, Pitch 0.65mm, IPC High Density)
footprint RU-28_M (TSOP, 28-Leads, Body 9.7x4.4mm, Pitch 0.65mm, IPC Low Density)
pins: 1 VREFD (in) "Unbuffered Reference Input for DAC D.", 2 VREFC (in) "Unbuffered Reference Input for DAC C.", 3 VREFB (in) "Unbuffered Reference Input for DAC B.", 4 VREFA (in) "Unbuffered Reference Input for DAC A.", 5 VOUTA (hiz) "Output of DAC A. Buffered output with rail-to-rail operation.", 6 VOUTB (hiz) "Output of DAC B. Buffered output with rail-to-rail operation.", 7 VOUTC (hiz) "Output of DAC C. Buffered output with rail-to-rail operation.", 8 VOUTD (hiz) "Output of DAC D. Buffered output with rail-to-rail operation.", 9 GND (power) "Ground Reference Point for All Circuitry on the Part.", 10 ~{CS} (in) "Active Low Chip Select Input. This is used in conjunction with W\R\ to write data to the parallel interface", 11 ~{WR} (in) "Active Low Write Input. This is used in conjunction with C\S\ to write data to the parallel interface.", 12 A0 (in) "LSB Address Pin for Selecting which DAC Is to Be Written to.", 13 A1 (in) "MSB Address Pin for Selecting which DAC is to Be Written to.", 14 ~{LDAC} (in) "Active Low Control Input that Updates the DAC Registers with the Contents of the Input Registers. This allows all DAC outputs to be simultaneously updated.", 15 ~{PD} (in) "Power-Down Pin. This active low control pin puts all DACs into power-down mode.", 16 VDD (power) "Power Supply Pin. This part can operate from 2.5 V to 5.5 V and the supply should be decoupled with a 10 uF capacitor in parallel with a 0.1 uF capacitor to GND.", 17 DB0 (in) "10 Parallel Data Inputs.", 18 DB1 (in) "10 Parallel Data Inputs.", 19 DB2 (in) "10 Parallel Data Inputs.", 20 DB3 (in) "10 Parallel Data Inputs.", 21 DB4 (in) "10 Parallel Data Inputs.", 22 DB5 (in) "10 Parallel Data Inputs.", 23 DB6 (in) "10 Parallel Data Inputs.", 24 DB7 (in) "10 Parallel Data Inputs.", 25 DB8 (in) "10 Parallel Data Inputs.", 26 DB9 (in) "10 Parallel Data Inputs. DB9 is the MSB of these 10 bits.", 27 GAIN (in) "Gain Control Pin. This controls whether the output range from the DAC is 0-VREF or 0-2 VREF.", 28 ~{CLR} (in) "Asynchronous Active Low Control Input that Clears All Input Registers and DAC Registers to Zeros."

## AD5336BRUZ
designator U?
Quad 10-Bit Digital-to-Analog Converter, 2.5 to 5.5 V, -40 to +105 degC, RU-28, Pb-Free, Tube; Generic Part Number: AD5336; Manufacturer: Analog Devices; PartNumber: AD5336BRUZ; # DAC Outputs: 4; Max V+: 5.5V; Op Pwr Diss: 4.5mW; Resolution (Bits): 10; Settling Time: 7µs; Single Supply: Yes; DatasheetVersion: Rev.0; PackageVersion: 2005; PackageReference: RU-28; PackageDescription: 28-Lead Thin Shrink Small Outline Package [TSSOP]; Supplier 1: Digi-Key; Supplier Part Number 1: AD5336BRUZ-ND; Supplier 2: Farnell; Supplier Part Number 2: 9425977; Supplier 3: Newark; Supplier Part Number 3: 59K3974; Supplier 4: Mouser; Supplier Part Number 4: 584-AD5336BRUZ; Packing: Tube; RoHS: Y; Mounting Technology: Surface Mount; Code_JEDEC: MO-153-AE; ComponentLink1Description: Manufacturer URL; ComponentLink1URL: http://www.analog.com/en/index.html; ComponentLink2Description: Datasheet; ComponentLink2URL: http://www.analog.com/static/imported-files/data_sheets/AD5334_5335_5336_5344.pdf; ComponentLink3Description: Package Specification; ComponentLink3URL: http://www.analog.com/static/imported-files/packages/249854663RU_28.pdf; ComponentLink4Description: Product URL; ComponentLink4URL: http://www.analog.com/en/digital-to-analog-converters/da-converters/ad5336/products/product.html
footprint RU-28_N (TSOP, 28-Leads, Body 9.7x4.4mm, Pitch 0.65mm, IPC Medium Density)
footprint RU-28_L (TSOP, 28-Leads, Body 9.7x4.4mm, Pitch 0.65mm, IPC High Density)
footprint RU-28_M (TSOP, 28-Leads, Body 9.7x4.4mm, Pitch 0.65mm, IPC Low Density)
pins: 1 VREFD (in) "Unbuffered Reference Input for DAC D.", 2 VREFC (in) "Unbuffered Reference Input for DAC C.", 3 VREFB (in) "Unbuffered Reference Input for DAC B.", 4 VREFA (in) "Unbuffered Reference Input for DAC A.", 5 VOUTA (hiz) "Output of DAC A. Buffered output with rail-to-rail operation.", 6 VOUTB (hiz) "Output of DAC B. Buffered output with rail-to-rail operation.", 7 VOUTC (hiz) "Output of DAC C. Buffered output with rail-to-rail operation.", 8 VOUTD (hiz) "Output of DAC D. Buffered output with rail-to-rail operation.", 9 GND (power) "Ground Reference Point for All Circuitry on the Part.", 10 ~{CS} (in) "Active Low Chip Select Input. This is used in conjunction with W\R\ to write data to the parallel interface", 11 ~{WR} (in) "Active Low Write Input. This is used in conjunction with C\S\ to write data to the parallel interface.", 12 A0 (in) "LSB Address Pin for Selecting which DAC Is to Be Written to.", 13 A1 (in) "MSB Address Pin for Selecting which DAC is to Be Written to.", 14 ~{LDAC} (in) "Active Low Control Input that Updates the DAC Registers with the Contents of the Input Registers. This allows all DAC outputs to be simultaneously updated.", 15 ~{PD} (in) "Power-Down Pin. This active low control pin puts all DACs into power-down mode.", 16 VDD (power) "Power Supply Pin. This part can operate from 2.5 V to 5.5 V and the supply should be decoupled with a 10 uF capacitor in parallel with a 0.1 uF capacitor to GND.", 17 DB0 (in) "10 Parallel Data Inputs.", 18 DB1 (in) "10 Parallel Data Inputs.", 19 DB2 (in) "10 Parallel Data Inputs.", 20 DB3 (in) "10 Parallel Data Inputs.", 21 DB4 (in) "10 Parallel Data Inputs.", 22 DB5 (in) "10 Parallel Data Inputs.", 23 DB6 (in) "10 Parallel Data Inputs.", 24 DB7 (in) "10 Parallel Data Inputs.", 25 DB8 (in) "10 Parallel Data Inputs.", 26 DB9 (in) "10 Parallel Data Inputs. DB9 is the MSB of these 10 bits.", 27 GAIN (in) "Gain Control Pin. This controls whether the output range from the DAC is 0-VREF or 0-2 VREF.", 28 ~{CLR} (in) "Asynchronous Active Low Control Input that Clears All Input Registers and DAC Registers to Zeros."